# Altium schematic symbol library Schlib1.SchLib: 1 symbol
Pins are listed as number, name and electrical type; pins without a type are passive.

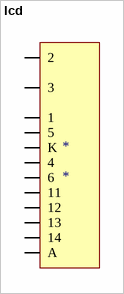
[diagram p0: symbol lcd]

## lcd
designator *
pins: 1 2, 2 3, 3 1, 4 5, 5 K, 6 4, 7 6, 8 11, 9 12, 10 13, 11 14, 12 A